# Altium schematic symbol library SCH - DRIVER - LED - TI TLC5924_RHB_32.SchLib: 1 symbol
Pins are listed as number, name and electrical type; pins without a type are passive.

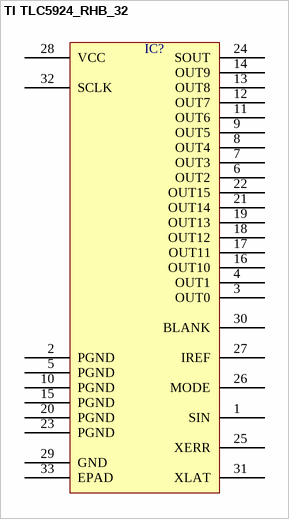
[diagram p0: symbol TI TLC5924_RHB_32]

## TI TLC5924_RHB_32
designator IC?  (value not drawn)
pins: 1 SIN, 2 PGND, 3 OUT0, 4 OUT1, 5 PGND, 6 OUT2, 7 OUT3, 8 OUT4, 9 OUT5, 10 PGND, 11 OUT6, 12 OUT7, 13 OUT8, 14 OUT9, 15 PGND, 16 OUT10, 17 OUT11, 18 OUT12, 19 OUT13, 20 PGND, 21 OUT14, 22 OUT15, 23 PGND, 24 SOUT, 25 XERR, 26 MODE, 27 IREF, 28 VCC, 29 GND, 30 BLANK, 31 XLAT, 32 SCLK, 33 EPAD